# EAGLE library part DMC1627 (library #PaJa_displeje)
LCD DISPLAY - Optrex, 16 characters x 2 Lines (TME - LCM16021AWSL)
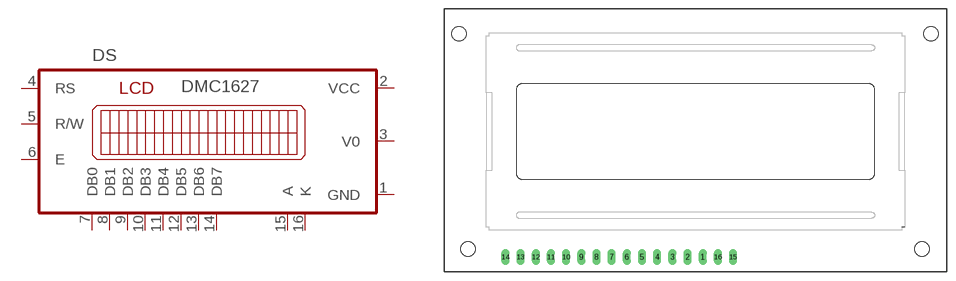
[diagram p2: symbol with the pads of DMC1627; footprint DMC1627]

Designator prefix DS

## DMC1627  [DMC1627]
1  GND  pwr
2  VCC  pwr
3  V0  pwr
4  RS  in
5  R/W  in
6  E  in
7  DB0  pas
8  DB1  pas
9  DB2  pas
10  DB3  pas
11  DB4  pas
12  DB5  pas
13  DB6  pas
14  DB7  pas
15  A  pas
16  K  pas

## Footprint DMC1627 (pad centres in mm)
LCD DISPLAY Optrex, 16 characters x 2 Lines
drill 0.813 long: 1 0.982,-19.341; 2 -1.558,-19.341; 3 -4.098,-19.341; 4 -6.638,-19.341; 5 -9.178,-19.341; 6 -11.718,-19.341; 7 -14.258,-19.341; 8 -16.798,-19.341; 9 -19.338,-19.341; 10 -21.878,-19.341; 11 -24.418,-19.341; 12 -26.958,-19.341; 13 -29.498,-19.341; 14 -32.038,-19.341; 15 6.062,-19.341; 16 3.522,-19.341
hole 2.4 at -39.818,18
hole 2.4 at -38.318,-18
hole 2.4 at 37.682,-18
hole 2.4 at 39.182,18